# Altium footprint library PcbLib1.PcbLib: 1 footprints
Each footprint in its own frame and in the unit in brackets; x right, y up, seen from the top. Pads: shape width x height; smd on the part's side, far side on the other; paste and mask are expansions set on the pad; w line width, h text height; cw(c..) or ccw(c..) is an arc to the next point about the centre after c.
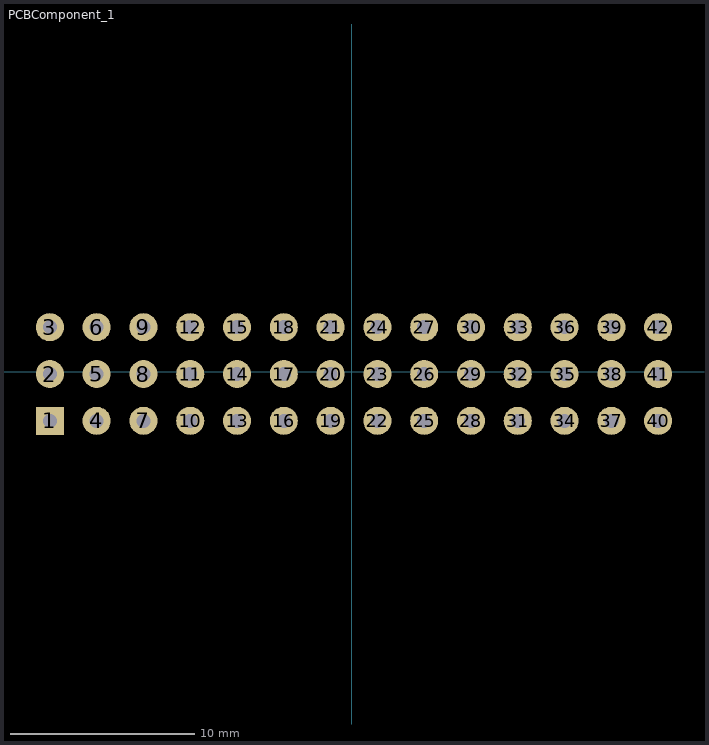
[diagram p0: the footprint, top view; thin cyan lines are the x and y axes]

## PCBComponent_1 [mil]
pads (42):
  rect 60x60 hole 30: 1(-645,-105)
  round 60 hole 30: 2(-645,-5) 3(-645,95) 4(-545,-105) 5(-545,-5) 6(-545,95) 7(-445,-105) 8(-445,-5) 9(-445,95) 10(-345,-105) 11(-345,-5) 12(-345,95) 13(-245,-105) 14(-245,-5) 15(-245,95) 16(-145,-105) 17(-145,-5) 18(-145,95) 19(-45,-105) 20(-45,-5) 21(-45,95) 22(55,-105) 23(55,-5) 24(55,95) 25(155,-105) 26(155,-5) 27(155,95) 28(255,-105) 29(255,-5) 30(255,95) 31(355,-105) 32(355,-5) 33(355,95) 34(455,-105) 35(455,-5) 36(455,95) 37(555,-105) 38(555,-5) 39(555,95) 40(655,-105) 41(655,-5) 42(655,95)